# Altium footprint library Crystal.PcbLib: 18 footprints (part 2 of 2)
Each footprint in its own frame and in the unit in brackets; x right, y up, seen from the top. Pads: shape width x height; smd on the part's side, far side on the other; paste and mask are expansions set on the pad; w line width, h text height; cw(c..) or ccw(c..) is an arc to the next point about the centre after c.
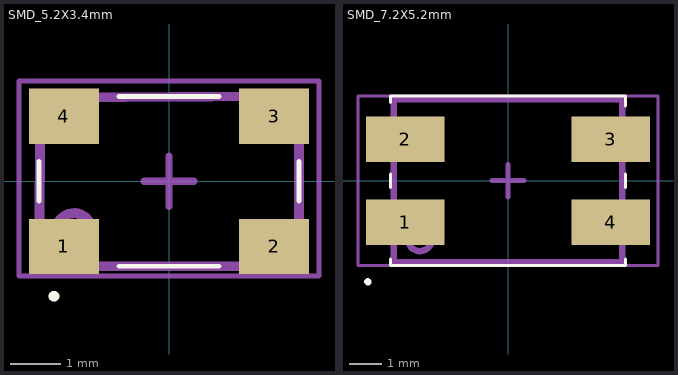
[diagram p1: the footprints below, top view; thin cyan lines are the x and y axes]

## SMD_5.2X3.4mm [mm] "SMD resonator_5.2X3.4X1.9"
height 1.9
pads (4):
  rect 1.4x1.1 smd mask+0.1: 1(-2.1,-1.3) 2(2.1,-1.3) 3(2.1,1.3) 4(-2.1,1.3)
Top Overlay:
  circle w0.2: c-2.3,-2.3 r0.01
  lines w0.1: -2.6,-0.4 -2.6,0.4 ; -1,-1.7 1,-1.7 ; -1,1.7 1,1.7 ; 2.6,-0.4 2.6,0.4
Top Assembly (Mech3):
  circle w0.2: c-1.9,-1 r0.361
  lines w0.2: -2.6,-1.7 2.6,-1.7 2.6,1.7 -2.575,1.675 -2.6,-1.7
Top Courtyard:
  lines w0.1: -3,-1.9 -3,2 3,2 3,-1.9 -3,-1.9
  lines w0.15: -0.5,0 0.5,0 ; 0,-0.5 0,0.5
3D body "User Library-FXO_LC53.STEP": height 1.39, standoff -0.01, extent -2.575,-1.675 2.575,1.675

## SMD_7.2X5.2mm [mm] "SMD resonator_7.2X5.2X1.3"
height 1.3
pads (4):
  rect 2.4x1.4 smd mask+0.1: 1(-3.15,-1.27) 2(-3.15,1.27) 3(3.15,1.27) 4(3.15,-1.27)
Top Overlay:
  circle w0.2: c-4.3,-3.1 r0.01
  lines w0.1: -3.6,-2.4 -3.6,-2.6 3.6,-2.6 3.6,-2.4 ; -3.6,-0.2 -3.6,0.2 ; -3.6,2.4 -3.6,2.6 3.6,2.6 3.6,2.3 ; 3.6,-0.2 3.6,0.2
Top Assembly (Mech3):
  circle w0.2: c-2.7,-1.8 r0.361
  lines w0.2: -3.5,-2.5 3.5,-2.5 3.5,2.5 -3.5,2.5 -3.5,-2.5
Top Courtyard:
  lines w0.1: -4.6,-2.6 4.6,-2.6 4.6,2.6 -4.6,2.6 -4.6,-2.6
  lines w0.15: -0.5,0 0.5,0 ; 0,-0.5 0,0.5
3D body "User Library-ABMM Crystal.STEP": height 1.4, standoff -0.01, extent -3.5,-2.5 3.5,2.5